# EAGLE library part CH334 (library ds_ic_peripherals)
-40℃~+85℃ 0.4mA 3.3V 4 480Mbps 85mA Hub I2C USB 2.0 QFN-24(4x4) USB HUB Controllers ROHS
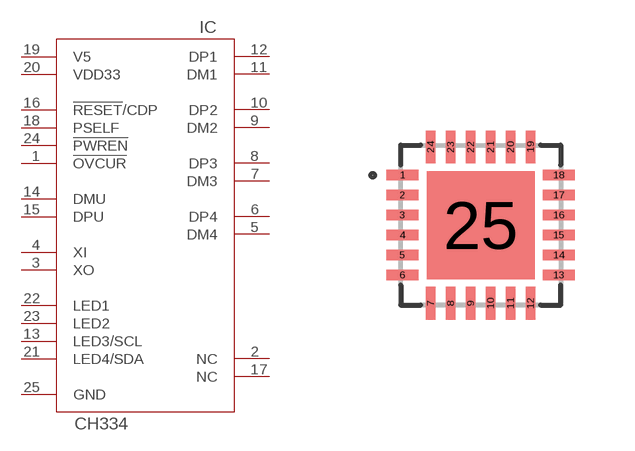
[diagram p52: symbol with the pads of QFN24; footprint QFN24]

Designator prefix IC

## CH334 (DATASHEET: https://cdn-learn.adafruit.com/assets/assets/000/131/435/original/CH334DS1.PDF?1721660148; DESCRIPTION: -40℃~+85℃ 0.4mA 3.3V 4 480Mbps 85mA Hub I2C USB 2.0 QFN-24(4x4) USB HUB Controllers ROHS; HQ_PART: IC138534308; LCSC_PART: C5187527; MANUFACTURER: WCH; MPN: CH334F; ROHS: YES; VALUE: CH334F)  [QFN24]
1  !OVCUR  out
2  NC  nc
3  XO  out
4  XI  in
5  DM4
6  DP4
7  DM3
8  DP3
9  DM2
10  DP2
11  DM1
12  DP1
13  LED3/SCL
14  DMU
15  DPU
16  !RESET!/CDP  out
17  NC  nc
18  PSELF  out
19  V5  pwr
20  VDD33  pwr
21  LED4/SDA
22  LED1
23  LED2
24  !PWREN  in
25  GND  pwr

## Footprint QFN24 (pad centres in mm)
smd 0.81 x 0.26: 1 -1.955,1.25; 2 -1.955,0.75; 3 -1.955,0.25; 4 -1.955,-0.25; 5 -1.955,-0.75; 6 -1.955,-1.25; 13 1.955,-1.25; 14 1.955,-0.75; 15 1.955,-0.25; 16 1.955,0.25; 17 1.955,0.75; 18 1.955,1.25
smd 0.26 x 0.81: 7 -1.25,-1.955; 8 -0.75,-1.955; 9 -0.25,-1.955; 10 0.25,-1.955; 11 0.75,-1.955; 12 1.25,-1.955; 19 1.25,1.955; 20 0.75,1.955; 21 0.25,1.955; 22 -0.25,1.955; 23 -0.75,1.955; 24 -1.25,1.955
smd 2.7 x 2.7: 25 0,0